# Altium schematic symbol library STM32F103C8T6.SchLib: 1 symbol
Pins are listed as number, name and electrical type; pins without a type are passive.

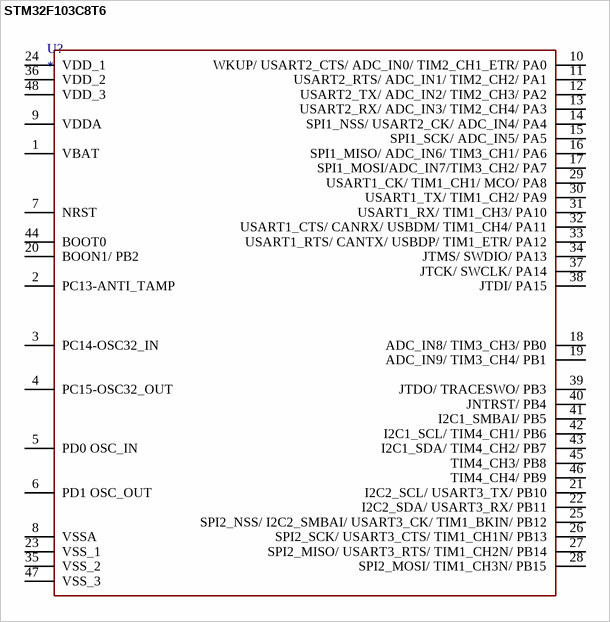
[diagram p0: symbol STM32F103C8T6]

## STM32F103C8T6
designator U?
LQFP48 line
footprint LQFP48 (LQFP, 48-Leads, Body 7,00x7,00mm, Pitch 0,50mm)
pins: 1 VBAT "Termal Pad", 2 PC13-ANTI_TAMP, 3 PC14-OSC32_IN, 4 PC15-OSC32_OUT, 5 PD0 OSC_IN, 6 PD1 OSC_OUT, 7 NRST, 8 VSSA, 9 VDDA, 10 WKUP/ USART2_CTS/ ADC_IN0/ TIM2_CH1_ETR/ PA0, 11 USART2_RTS/ ADC_IN1/ TIM2_CH2/ PA1, 12 USART2_TX/ ADC_IN2/ TIM2_CH3/ PA2, 13 USART2_RX/ ADC_IN3/ TIM2_CH4/ PA3, 14 SPI1_NSS/ USART2_CK/ ADC_IN4/ PA4, 15 SPI1_SCK/ ADC_IN5/ PA5, 16 SPI1_MISO/ ADC_IN6/ TIM3_CH1/ PA6, 17 SPI1_MOSI/ADC_IN7/TIM3_CH2/ PA7, 18 ADC_IN8/ TIM3_CH3/ PB0, 19 ADC_IN9/ TIM3_CH4/ PB1, 20 BOON1/ PB2, 21 I2C2_SCL/ USART3_TX/ PB10, 22 I2C2_SDA/ USART3_RX/ PB11, 23 VSS_1, 24 VDD_1, 25 SPI2_NSS/ I2C2_SMBAI/ USART3_CK/ TIM1_BKIN/ PB12, 26 SPI2_SCK/ USART3_CTS/ TIM1_CH1N/ PB13, 27 SPI2_MISO/ USART3_RTS/ TIM1_CH2N/ PB14, 28 SPI2_MOSI/ TIM1_CH3N/ PB15, 29 USART1_CK/ TIM1_CH1/ MCO/ PA8, 30 USART1_TX/ TIM1_CH2/ PA9, 31 USART1_RX/ TIM1_CH3/ PA10, 32 USART1_CTS/ CANRX/ USBDM/ TIM1_CH4/ PA11, 33 USART1_RTS/ CANTX/ USBDP/ TIM1_ETR/ PA12, 34 JTMS/ SWDIO/ PA13, 35 VSS_2, 36 VDD_2, 37 JTCK/ SWCLK/ PA14, 38 JTDI/ PA15, 39 JTDO/ TRACESWO/ PB3, 40 JNTRST/ PB4, 41 I2C1_SMBAI/ PB5, 42 I2C1_SCL/ TIM4_CH1/ PB6, 43 I2C1_SDA/ TIM4_CH2/ PB7, 44 BOOT0, 45 TIM4_CH3/ PB8, 46 TIM4_CH4/ PB9, 47 VSS_3, 48 VDD_3